# Altium footprint library Diversos.PcbLib: 23 footprints (part 2 of 2)
Each footprint in its own frame and in the unit in brackets; x right, y up, seen from the top. Pads: shape width x height; smd on the part's side, far side on the other; paste and mask are expansions set on the pad; w line width, h text height; cw(c..) or ccw(c..) is an arc to the next point about the centre after c.
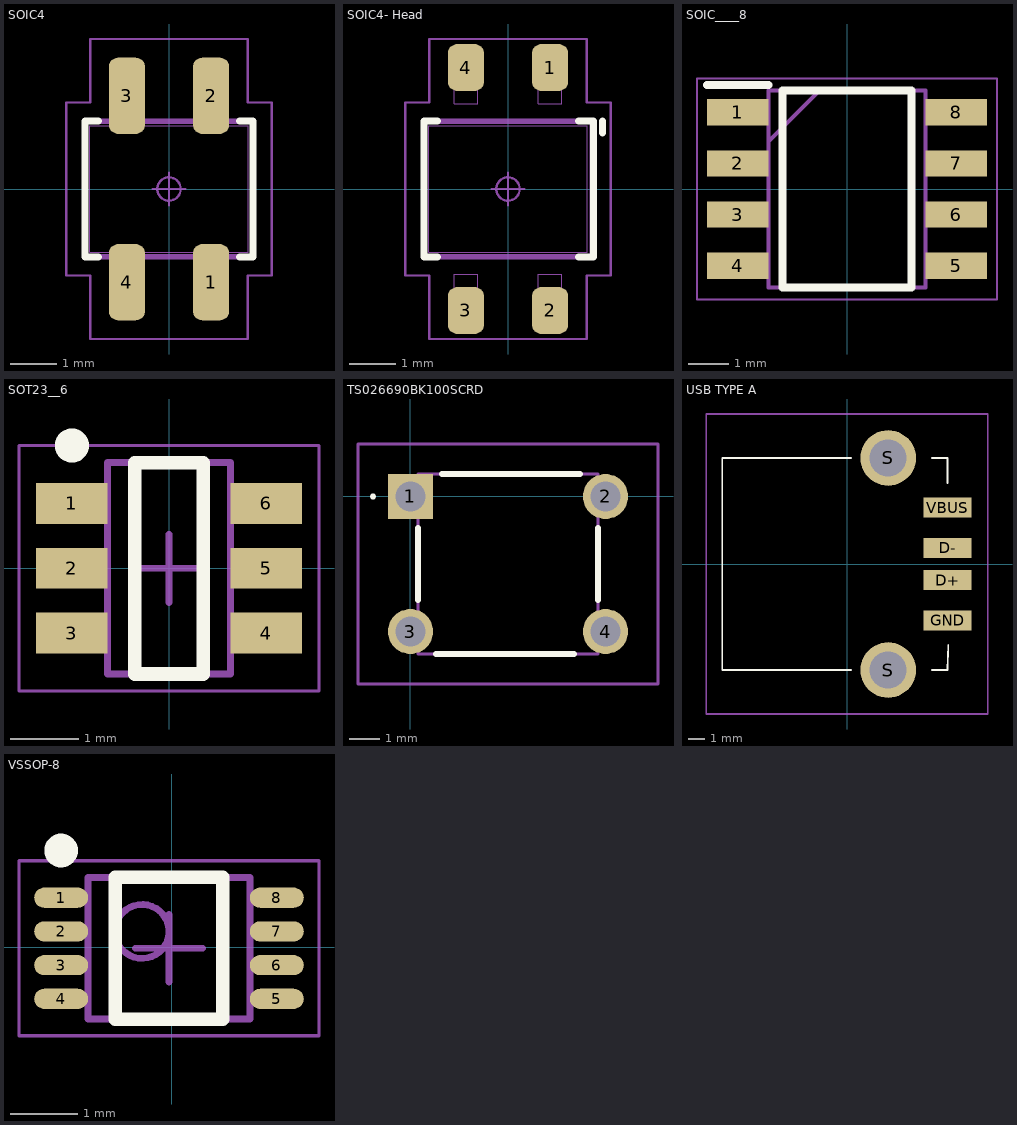
[diagram p1: the footprints below, top view; thin cyan lines are the x and y axes]

## SOIC4 [mm] "Small Outline IC (SOIC), 1.80 mm pitch; 4 pin, 3.40 mm L X 2.70 mm W X 1.70 mm H body"
height 1.7
pads (4):
  rrect49% 0.77x1.63 smd: 1(0.9,-1.995) 2(0.9,1.995) 3(-0.9,1.995) 4(-0.9,-1.995)
Top Overlay:
  lines w0.15: -1.51,-1.45 -1.8,-1.45 -1.8,1.45 -1.51,1.45 ; 1.51,-1.45 1.8,-1.45 1.8,1.45 1.51,1.45
Mechanical 11:
  lines w0.12: -1.8,-1.45 -1.8,1.45 1.8,1.45 1.8,-1.45 -1.8,-1.45
Mechanical 12:
  lines w0.025: -1.7,-1.35 -1.7,1.35 1.7,1.35 1.7,-1.35 -1.7,-1.35 ; -1.15,-2.3 -0.65,-2.3 -0.65,-1.825 -1.15,-1.825 -1.15,-2.3 ; -1.15,1.825 -0.65,1.825 -0.65,2.3 -1.15,2.3 -1.15,1.825 ; 0.65,-2.3 1.15,-2.3 1.15,-1.825 0.65,-1.825 0.65,-2.3 ; 0.65,1.825 1.15,1.825 1.15,2.3 0.65,2.3 0.65,1.825
Mechanical 15:
  circle w0.05: c0,0 r0.25
  lines w0.05: -0.35,0 0.35,0 ; 0,-0.35 0,0.35 ; -2.2,-1.85 -2.2,1.85 -1.685,1.85 -1.685,3.21 1.685,3.21 1.685,1.85 2.2,1.85 2.2,-1.85 1.685,-1.85 1.685,-3.21 -1.685,-3.21 -1.685,-1.85 -2.2,-1.85
Mechanical 16:
  text ".Designator" at 0,0 h1.5
3D body "User Library-QRE1113GR.STEP": height 1.7, standoff -0.15, extent -1.8,-2.4 1.8,2.4

## SOIC4- Head [mm] "Small Outline IC (SOIC), 1.80 mm pitch; 4 pin, 3.40 mm L X 2.70 mm W X 1.70 mm H body"
height 1.7
pads (4):
  rrect49% 0.77x1 smd: 1(0.9,2.6) 2(0.9,-2.6) 3(-0.9,-2.6) 4(-0.9,2.6)
Top Overlay:
  lines w0.15: -1.51,-1.45 -1.8,-1.45 -1.8,1.45 -1.51,1.45 ; 1.51,-1.45 1.825,-1.45 1.825,1.45 1.51,1.45 ; 2.025,1.2 2.025,1.45
Mechanical 11:
  lines w0.12: -1.8,-1.45 -1.8,1.45 1.8,1.45 1.8,-1.45 -1.8,-1.45
Mechanical 12:
  lines w0.025: -1.7,-1.35 -1.7,1.35 1.7,1.35 1.7,-1.35 -1.7,-1.35 ; -1.15,-2.3 -0.65,-2.3 -0.65,-1.825 -1.15,-1.825 -1.15,-2.3 ; -1.15,1.825 -0.65,1.825 -0.65,2.3 -1.15,2.3 -1.15,1.825 ; 0.65,-2.3 1.15,-2.3 1.15,-1.825 0.65,-1.825 0.65,-2.3 ; 0.65,1.825 1.15,1.825 1.15,2.3 0.65,2.3 0.65,1.825
Mechanical 15:
  circle w0.05: c0,0 r0.25
  lines w0.05: -0.35,0 0.35,0 ; 0,-0.35 0,0.35 ; -2.2,-1.85 -2.2,1.85 -1.685,1.85 -1.685,3.21 1.685,3.21 1.685,1.85 2.2,1.85 2.2,-1.85 1.685,-1.85 1.685,-3.21 -1.685,-3.21 -1.685,-1.85 -2.2,-1.85
Mechanical 16:
  text ".Designator" at 0,0 h1.5
3D body "User Library-QRE1113GR.STEP": height 0.15, standoff -1.7, extent -1.8,-2.4 1.8,2.4

## SOIC____8 [mm]
pads (8):
  rect 1.525x0.65 smd: 1(-2.712,1.905) 2(-2.712,0.635) 3(-2.712,-0.635) 4(-2.712,-1.905) 5(2.712,-1.905) 6(2.712,-0.635) 7(2.712,0.635) 8(2.712,1.905)
Top Overlay:
  lines w0.2: -3.475,2.58 -1.95,2.58 ; -1.6,-2.45 1.6,-2.45 1.6,2.45 -1.6,2.45 -1.6,-2.45
Mechanical 13:
  lines w0.1: -1.95,1.18 -0.68,2.45 ; -1.95,-2.45 1.95,-2.45 1.95,2.45 -1.95,2.45 -1.95,-2.45
Mechanical 15:
  lines w0.05: -3.725,-2.75 3.725,-2.75 3.725,2.75 -3.725,2.75 -3.725,-2.75
3D body "TSX9292IDT.stp": height 1.75, standoff 0, extent -3,-2.45 3,2.45

## SOT23__6 [mm] "SOT23, 6-Leads, Body 2,90x2,70mm, Pitch 0,95mm, IPC Medium Density"
height 1.45
pads (6):
  rect 1.05x0.6 smd: 1(-1.425,0.95) 2(-1.425,0) 3(-1.425,-0.95) 4(1.425,-0.95) 5(1.425,0) 6(1.425,0.95)
Top Overlay:
  circle w0.25: c-1.425,1.8 r0.125
  lines w0.2: -0.5,-1.55 0.5,-1.55 0.5,1.55 -0.5,1.55 -0.5,-1.55
Mechanical 13:
  lines w0.1: -0.9,-1.55 -0.9,1.55 0.9,1.55 0.9,-1.55 -0.9,-1.55
Mechanical 15:
  lines w0.05: -2.2,-1.8 -2.2,1.8 2.2,1.8 2.2,-1.8 -2.2,-1.8
  lines w0.1: -0.5,0 0.5,0 ; 0,-0.5 0,0.5
3D body "SOT23__6.step": height 1.45, standoff 0, extent -1.7,-1.55 1.7,1.55

## TS026690BK100SCRD [mm]
pads (4):
  rect 1.5x1.5 hole 1: 1(0,0)
  round 1.5 hole 1: 2(6.5,0) 3(0,-4.5) 4(6.5,-4.5)
Top Overlay:
  lines w0.1: -1.3,0 ccw(c-1.25,0) -1.2,0 ccw(c-1.25,0) -1.3,0
  lines w0.2: 0.25,-3.45 0.25,-1.05 ; 0.85,-5.25 5.45,-5.25 ; 1.05,0.75 5.65,0.75 ; 6.25,-3.45 6.25,-1.05
Mechanical 13:
  lines w0.1: 0.25,-5.25 0.25,0.75 6.25,0.75 6.25,-5.25 0.25,-5.25
Mechanical 15:
  lines w0.1: -1.75,-6.25 -1.75,1.75 8.25,1.75 8.25,-6.25 -1.75,-6.25
3D body "TS02-66-90-BK-100-SCR-D.stp": height 9.3, standoff -5, extent -0.397,-5.25 6.9,0.75

## USB TYPE A [mm]
pads (6):
  rect 3x1.25 smd: D+(6.23,-1) D-(6.23,1) GND(6.23,-3.5) VBUS(6.23,3.5)
  round 3.45 hole 2.3: S(2.55,-6.57) S(2.55,6.57)
Top Overlay:
  lines w0.1: 0.27,-6.57 -7.73,-6.57 -7.73,6.57 0.27,6.57 ; 5.27,-6.57 6.23,-6.57 6.27,-5 ; 5.27,6.57 6.23,6.57 6.23,5
Mechanical 15:
  lines w0.1: -8.73,-9.295 -8.73,9.295 8.73,9.295 8.73,-9.295 -8.73,-9.295
3D body "usb_2_a_smd.stp": height 7.54, standoff -3.45, extent -7.804,-7.874 7.296,7.926

## VSSOP-8 [mm]
pads (8):
  oval 0.8x0.3 smd: 1(-1.643,0.735) 2(-1.643,0.235) 3(-1.643,-0.265) 4(-1.643,-0.765) 5(1.557,-0.765) 6(1.557,-0.265) 7(1.557,0.235) 8(1.557,0.735)
Top Overlay:
  circle w0.25: c-1.643,1.435 r0.125
  lines w0.2: -0.843,-1.065 -0.843,1.035 0.757,1.035 0.757,-1.065 -0.843,-1.065
Mechanical 13:
  circle w0.1: c-0.443,0.235 r0.4
  lines w0.1: -1.243,-1.065 -1.243,1.035 1.157,1.035 1.157,-1.065 -1.243,-1.065
Mechanical 15:
  lines w0.05: -2.268,-1.315 -2.268,1.285 2.182,1.285 2.182,-1.315 -2.268,-1.315
  lines w0.1: -0.543,-0.015 0.457,-0.015 ; -0.043,-0.515 -0.043,0.485
3D body "SN74LVC2G157DCU3.STEP": height 0.9, standoff 0, extent -1.55,-1 1.55,1